# Altium footprint library C SMD .PcbLib: 37 footprints (part 3 of 3)
Each footprint in its own frame and in the unit in brackets; x right, y up, seen from the top. Pads: shape width x height; smd on the part's side, far side on the other; paste and mask are expansions set on the pad; w line width, h text height; cw(c..) or ccw(c..) is an arc to the next point about the centre after c.
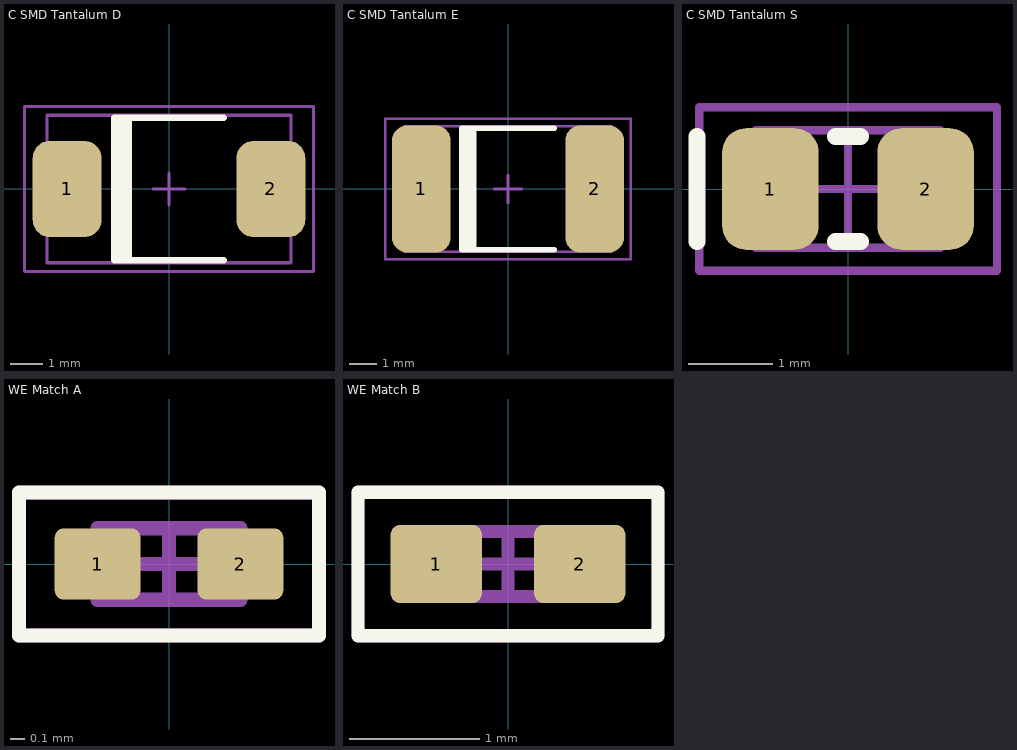
[diagram p2: the footprints below, top view; thin cyan lines are the x and y axes]

## C SMD Tantalum D [mm] "Chip Capacitor, 2-Leads, Body 7,3x4,3mm, IPC Medium Density"
height 2.8
pads (2):
  rrect50% 2.15x3 smd: 1(-3.175,0) 2(3.175,0)
Top Overlay:
  rectangle: -1.7,-2.225 -1.15,2.225
  lines w0.2: 1.7,-2.225 -1.7,-2.225 -1.7,2.225 1.7,2.225
Mechanical 13:
  lines w0.1: -3.8,-2.3 3.8,-2.3 3.8,2.3 -3.8,2.3 -3.8,-2.3
Mechanical 15:
  lines w0.1: -0.5,0 0.5,0 ; 0,-0.5 0,0.5 ; -4.5,-2.575 4.5,-2.575 4.5,2.575 -4.5,2.575 -4.5,-2.575
3D body: height 3.1, standoff -0.04, extent -4.5,-2.3 4.497,2.31

## C SMD Tantalum E [mm] "Chip Capacitor, 2-Leads, Body 7,3x4,3mm"
height 4
pads (2):
  rrect50% 2.15x4.65 smd: 1(-3.175,0) 2(3.175,0)
Top Overlay:
  rectangle: -1.7,-2.225 -1.15,2.225
  lines w0.2: 1.7,-2.225 -1.7,-2.225 -1.7,2.225 1.7,2.225
Mechanical 13:
  lines w0.1: -3.8,-2.3 3.8,-2.3 3.8,2.3 -3.8,2.3 -3.8,-2.3
Mechanical 15:
  lines w0.1: -0.5,0 0.5,0 ; 0,-0.5 0,0.5 ; -4.5,-2.575 4.5,-2.575 4.5,2.575 -4.5,2.575 -4.5,-2.575
3D body: height 4, standoff 0, extent -3.8,-2.3 3.8,2.3

## C SMD Tantalum S [mm] "Chip Capacitor, 2-Leads, Body 2,0x1,2mm"
height 1.2
pads (2):
  rrect50% 1.15x1.45 smd: 1(-0.925,0) 2(0.925,0)
Top Overlay:
  lines w0.2: -1.8,-0.625 -1.8,0.625 ; -0.15,-0.625 0.15,-0.625 ; -0.15,0.625 0.15,0.625
Mechanical 13:
  lines w0.1: -1.1,-0.7 1.1,-0.7 1.1,0.7 -1.1,0.7 -1.1,-0.7
Mechanical 15:
  lines w0.1: -0.5,0 0.5,0 ; 0,-0.5 0,0.5 ; -1.775,-0.975 1.775,-0.975 1.775,0.975 -1.775,0.975 -1.775,-0.975
3D body: height 1.2, standoff 0, extent -1.1,-0.7 1.1,0.7

## WE Match A [mm] "Pads: 0.6x 0.5y, gap 0.4"
height 0.5
pads (2):
  rrect25% 0.6x0.5 smd: 1(-0.5,0) 2(0.5,0)
Top Overlay:
  lines w0.1: -1.05,-0.5 -1.05,0.5 1.05,0.5 1.05,-0.5 -1.05,-0.5
Mechanical 13:
  lines w0.1: -0.5,-0.25 -0.5,0.25 0.5,0.25 0.5,-0.25 -0.5,-0.25
Mechanical 15:
  lines w0.1: -0.25,0 0.25,0 ; 0,-0.25 0,0.25 ; -1.05,-0.5 -1.05,0.5 1.05,0.5 1.05,-0.5 -1.05,-0.5
3D body: height 0.51, standoff 0, extent -0.508,-0.254 0.508,0.254

## WE Match B [mm] "Pads: 0.7x 0.6y, gap 0.4"
height 0.5
pads (2):
  rrect25% 0.7x0.6 smd: 1(-0.55,0) 2(0.55,0)
Top Overlay:
  lines w0.1: -1.15,-0.55 1.15,-0.55 1.15,0.55 -1.15,0.55 -1.15,-0.55
Mechanical 13:
  lines w0.1: -0.5,-0.25 0.5,-0.25 0.5,0.25 -0.5,0.25 -0.5,-0.25
Mechanical 15:
  lines w0.1: -0.25,0 0.25,0 ; 0,-0.25 0,0.25 ; -1.15,-0.55 1.15,-0.55 1.15,0.55 -1.15,0.55 -1.15,-0.55
3D body: height 0.51, standoff 0, extent -0.508,-0.254 0.508,0.254